# Altium schematic symbol library Schlib1.SchLib: 1 symbol
Pins are listed as number, name and electrical type; pins without a type are passive.

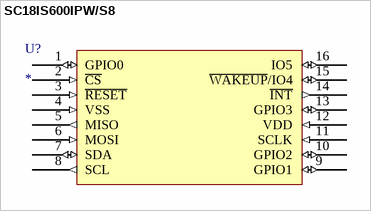
[diagram p0: symbol SC18IS600IPW/S8]

## SC18IS600IPW/S8
designator U?
SPI to I2C-bus interface
pins: 1 GPIO0 (io), 2 ~{CS} (in), 3 ~{RESET} (in), 4 VSS (in), 5 MISO (out), 6 MOSI (in), 7 SDA (io), 8 SCL (out), 9 GPIO1 (io), 10 GPIO2 (io), 11 SCLK (in), 12 VDD (in), 13 GPIO3 (io), 14 ~{INT} (out), 15 ~{WAKEUP}/IO4 (io), 16 IO5 (io)